# Altium schematic symbol library XT-a0.SchLib: 14 symbols
Pins are listed as number, name and electrical type; pins without a type are passive.

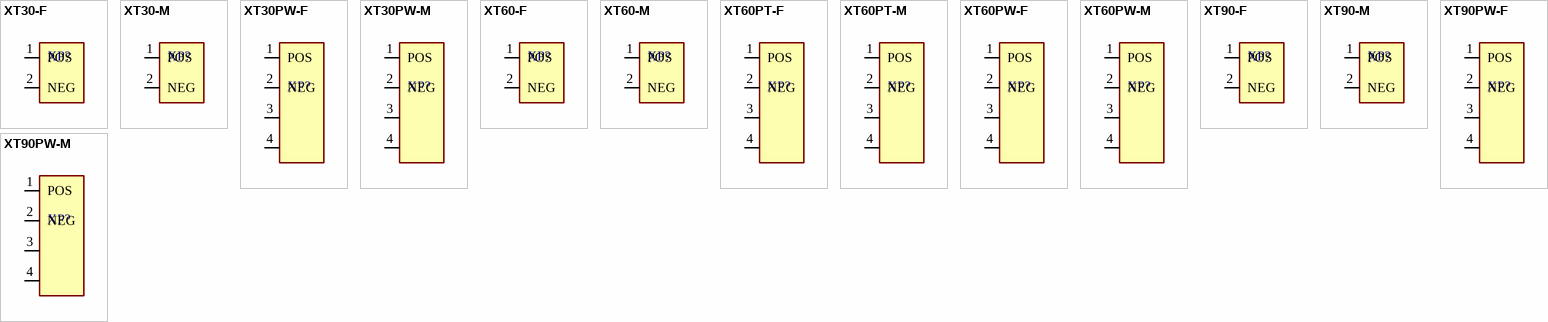
[diagram p0: symbols XT30-F to XT90PW-M]

## XT30-F
designator XP?  (value not drawn)
Plug; DC supply; XT30; male; PIN: 2; for cable; soldered; 15A; 500V
footprint XT30-F
pins: 1 POS, 2 NEG

## XT30-M
designator XP?  (value not drawn)
Plug; DC supply; XT30; male; PIN: 2; for cable; soldered; 15A; 500V
footprint XT30-M
pins: 1 POS, 2 NEG

## XT30PW-F
designator XP?  (value not drawn)
Plug; DC supply; XT30; male; PIN: 2; for cable; soldered; 15A; 500V
footprint XT30PW-F
pins: 1 POS, 2 NEG, 3 M1, 4 M2

## XT30PW-M
designator XP?  (value not drawn)
Plug; DC supply; XT30; male; PIN: 2; for cable; soldered; 15A; 500V
footprint XT30PW-M
pins: 1 POS, 2 NEG, 3 M1, 4 M2

## XT60-F
designator XP?  (value not drawn)
Plug; DC supply; XT60; male; PIN: 2; for cable; soldered; 30A; 500V
footprint XT60-F
pins: 1 POS, 2 NEG

## XT60-M
designator XP?  (value not drawn)
Plug; DC supply; XT60; male; PIN: 2; for cable; soldered; 30A; 500V
footprint XT60-M
pins: 1 POS, 2 NEG

## XT60PT-F
designator XP?  (value not drawn)
Plug; DC supply; XT60; female; PIN: 2; for cable; soldered; 30A; 500V
footprint XT60PT-F
pins: 1 POS, 2 NEG, 3 M1, 4 M2

## XT60PT-M
designator XP?  (value not drawn)
Plug; DC supply; XT60; male; PIN: 2; for cable; soldered; 30A; 500V
footprint XT60PT-M
pins: 1 POS, 2 NEG, 3 M1, 4 M2

## XT60PW-F
designator XP?  (value not drawn)
Plug; DC supply; XT60; male; PIN: 2; for cable; soldered; 30A; 500V
footprint XT60PW-F
pins: 1 POS, 2 NEG, 3 M1, 4 M2

## XT60PW-M
designator XP?  (value not drawn)
Plug; DC supply; XT60; male; PIN: 2; for cable; soldered; 30A; 500V
footprint XT60PW-M
pins: 1 POS, 2 NEG, 3 M1, 4 M2

## XT90-F
designator XP?  (value not drawn)
Plug; DC supply; XT90; male; PIN: 2; for cable; soldered; 40A; 500V
footprint XT90-F
pins: 1 POS, 2 NEG

## XT90-M
designator XP?  (value not drawn)
Plug; DC supply; XT90; male; PIN: 2; for cable; soldered; 40A; 500V
footprint XT90-M
pins: 1 POS, 2 NEG

## XT90PW-F
designator XP?  (value not drawn)
Plug; DC supply; XT90; male; PIN: 2; for cable; soldered; 40A; 500V
footprint XT90PW-F
pins: 1 POS, 2 NEG, 3 M1, 4 M2

## XT90PW-M
designator XP?  (value not drawn)
Plug; DC supply; XT90; male; PIN: 2; for cable; soldered; 40A; 500V
footprint XT90PW-M
pins: 1 POS, 2 NEG, 3 M1, 4 M2